# Altium schematic symbol library OUTLET_LIB.SchLib: 4 symbols
Pins are listed as number, name and electrical type; pins without a type are passive.

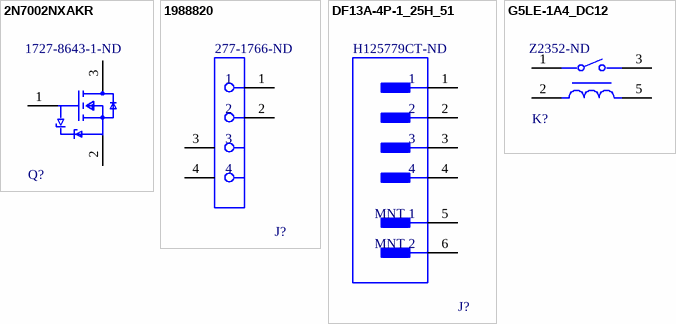
[diagram p0: symbols 2N7002NXAKR to G5LE-1A4_DC12]

## 2N7002NXAKR
designator Q?  Supplier Part Number 1: 1727-8643-1-ND  (hidden comment: *)
2N7002NXAK - 60 V, single N-channel Trench MOSFET; Manufacturer: Nexperia; Manufacturer Part Number: 2N7002NXAKR; Supplier 1: Digi-Key; RoHS: No; Stock 1: 74376; Pricing 1: 1=0.10000, 10=0.05600, 25=0.05360, 100=0.03030, 500=0.02380, 1000=0.01653 (USD)
footprint Nexperia_USA_Inc_SOT23_IPC_B
pins: 1 G, 2 S, 3 D

## 1988820
designator J?  Supplier Part Number 1: 277-1766-ND  (hidden comment: *)
CONN TERM BLOCK 45DEG 4POS 5MM; Manufacturer: Phoenix Contact; Manufacturer Part Number: 1988820; Current Rating: 24A; Number of Positions: 4; Gender: Male; Voltage Rating: 250V; Number of Levels: 1; Current: 15A; Voltage: 300V; Wire Gauge (Max): 26AWG; Wire Gauge (Min): 12AWG; Approvals: UL,VDE,CB,EAC; Supplier 1: Digi-Key; RoHS: Yes; Category: Terminal Blocks; Stock 1: 297; Pricing 1: 1=0.83000, 10=0.79400, 50=0.75900, 100=0.73830, 250=0.69000, 500=0.63480, 1000=0.58650 (USD); Mount: Through Hole; Number of Pins: 4; Color: Green; Housing Material: Polyamide; Contact Material: Tin; Weight: 0.145329oz; Material: Polyamide; Housing Color: Green; Package Quantity: 250; Packaging: Bulk; Termination: Solder; Number of Contacts: 4; Series: COMBICON PTA; Max Current Rating: 24A; Number of Rows: 1; Max Supply Voltage: 250V; Number of Poles: 4; Number of Positions Per Level: 4; Number of Circuits: 4; Orientation: Straight; Length: 20mm; Width: 20mm; Height: 15.4mm; Pitch: 5mm; Depth: 12.8mm; Radiation Hardening: No; Lead Free: Lead Free; Flammability Rating: UL94 V-0; RoHS Compliant: Yes; ComponentLink1URL: https://datasheet.ciiva.com/16051/1988820-16051350.pdf?src-supplier=Onlinecomponents.com; ComponentLink1Description: https://datasheet.ciiva.com/16051/1988820-16051350.pdf?src-supplier=Onlinecomponents.com; ComponentLink2URL: https://datasheet.ciiva.com/15170/getdatasheetpartid-258302-15170104.pdf?src-supplier=Verical; ComponentLink2Description: https://datasheet.ciiva.com/15170/getdatasheetpartid-258302-15170104.pdf?src-supplier=Verical; ComponentLink3URL: https://datasheet.ciiva.com/824/combiconcompact5-0mmseries-824248.pdf?src-supplier=Digi-Key; ComponentLink3Description: https://datasheet.ciiva.com/824/combiconcompact5-0mmseries-824248.pdf?src-supplier=Digi-Key
footprint Phoenix_Contact_0_MFG
pins: 1, 2, 3, 4

## DF13A-4P-1_25H_51
designator J?  Supplier Part Number 1: H125779CT-ND  (hidden comment: *)
CONN HEADER SMD R/A 4POS 1.25MM; Manufacturer: Hirose; Manufacturer Part Number: DF13A-4P-1.25H(51); Number of Contacts: 4; Connector Type: Male Pin; Supplier 1: Digi-Key; RoHS: Yes; Category: Headers and Wire Housings; Stock 1: 146; Pricing 1: 1=0.93000, 10=0.81600, 100=0.70400, 500=0.57600 (USD); Mount: Surface Mount; Color: Beige; Contact Plating: Gold; Termination: Solder; Package Quantity: 1000; Packaging: Tape and Reel; Number of Rows: 1; Number of Positions: 4; Series: DF13; Contact Type: Male Pin; Pitch: 1.25mm; Lead Free: Lead Free; RoHS Compliant: Yes; ComponentLink1URL: http://www.mouser.com/ds/2/185/DF13_catalog-939190.pdf?src-supplier=Mouser; ComponentLink1Description: http://www.mouser.com/ds/2/185/DF13_catalog-939190.pdf?src-supplier=Mouser; ComponentLink2URL: http://www.hirose.co.jp/cataloge_hp/e53600014.pdf?src-supplier=Avnet; ComponentLink2Description: http://www.hirose.co.jp/cataloge_hp/e53600014.pdf?src-supplier=Avnet; ComponentLink3URL: https://www.hirose.com/product/download/?distributor=digikey&amp;type=2d&amp;lang=en&amp;num=DF13A-4P-1.25H(51)&src-supplier=Digi-Key; ComponentLink3Description: https://www.hirose.com/product/download/?distributor=digikey&amp;type=2d&amp;lang=en&amp;num=DF13A-4P-1.25H(51)&src-supplier=Digi-Key; ComponentLink4URL: https://www.hirose.com/product/en/download_file/key_name/DF13A-4P-1.25H%2851%29/category/Specification%20Sheet/doc_file_id/38309/?file_category_id=9&item_id=05360303351&is_series=&src-supplier=Digi-Key; ComponentLink4Description: https://www.hirose.com/product/en/download_file/key_name/DF13A-4P-1.25H%2851%29/category/Specification%20Sheet/doc_file_id/38309/?file_category_id=9&item_id=05360303351&is_series=&src-supplier=Digi-Key; ComponentLink5URL: https://www.hirose.com/product/en/download_file/key_name/DF13/category/Catalog/doc_file_id/31687/?file_category_id=4&item_id=38&is_series=1&src-supplier=Digi-Key; ComponentLink5Description: https://www.hirose.com/product/en/download_file/key_name/DF13/category/Catalog/doc_file_id/31687/?file_category_id=4&item_id=38&is_series=1&src-supplier=Digi-Key; ComponentLink6URL: http://www.hirose.co.jp/cataloge_hp/en_DF13_20130411.pdf?src-supplier=Future+Electronics; ComponentLink6Description: http://www.hirose.co.jp/cataloge_hp/en_DF13_20130411.pdf?src-supplier=Future+Electronics
footprint Hirose_0_MFG
pins: 1, 2, 3, 4, 5 MNT 1, 6 MNT 2

## G5LE-1A4_DC12
designator K?  Supplier Part Number 1: Z2352-ND  (hidden comment: *)
General Purpose Relays PowerPCBRelay 12VDC SPST-NO Sealed VDE; Manufacturer: Omron; Manufacturer Part Number: G5LE-1A4 DC12; Power Rating: 400mW; Voltage Rating (AC): 250V; Voltage Rating (DC): 125V; Max Current Rating: 10A; Throw Configuration: SPST; Coil Resistance: 360R; Coil Current: 33.3mA; Operate Time: 10ms; Coil Voltage (DC): 12V; Coil Type: Non-Latching; Release Time: 5ms; Approvals: UL,CSA; Supplier 1: Digi-Key; RoHS: Yes; Category: Power Relays; Stock 1: 3666; Pricing 1: 1=1.35000, 10=1.26900, 25=1.12760, 50=1.07140, 100=1.01500, 250=0.90220, 500=0.84582, 1000=0.78944, 5000=0.76124 (USD); Mount: Through Hole,PCB; Number of Pins: 4; Contact Material: Tin,Silver; Weight: 12g; Min Operating Temperature: -40°C; Max Operating Temperature: 85°C; Max Voltage Rating (AC): 250V; Max Voltage Rating (DC): 125V; Packaging: Tray; Termination: Solder; Contact Current Rating: 10A; Power Consumption: 400mW; Package Quantity: 500; Relay Type: General Purpose; Coil Power: 400mW; Current Rating: 10A; Series: G5LE; Length: 22.5mm; Width: 16.5mm; Height: 19mm; Depth: 16.5mm; Radiation Hardening: No; Lead Free: Lead Free; ComponentLink1URL: https://datasheet.ciiva.com/5736/1514128-5736976.pdf?src-supplier=Farnell; ComponentLink1Description: https://datasheet.ciiva.com/5736/1514128-5736976.pdf?src-supplier=Farnell; ComponentLink2URL: https://datasheet.ciiva.com/8000/1514128-8000747.pdf?src-supplier=Element14; ComponentLink2Description: https://datasheet.ciiva.com/8000/1514128-8000747.pdf?src-supplier=Element14; ComponentLink3URL: https://datasheet.ciiva.com/15185/getdatasheetpartid-159455-15185749.pdf?src-supplier=Verical; ComponentLink3Description: https://datasheet.ciiva.com/15185/getdatasheetpartid-159455-15185749.pdf?src-supplier=Verical; ComponentLink4URL: https://datasheet.ciiva.com/30136/g5le-0513-30136902.pdf?src-supplier=Onlinecomponents.com; ComponentLink4Description: https://datasheet.ciiva.com/30136/g5le-0513-30136902.pdf?src-supplier=Onlinecomponents.com
footprint Omron_G5LE-1A4_DC12_MFG
pins: 1, 2, 3, 5